# EAGLE library part AD8226ARMZ-R7 (library AD2886-7)
Wide Supply Range, Rail-to-Rail Output Instrumentation Amplifier
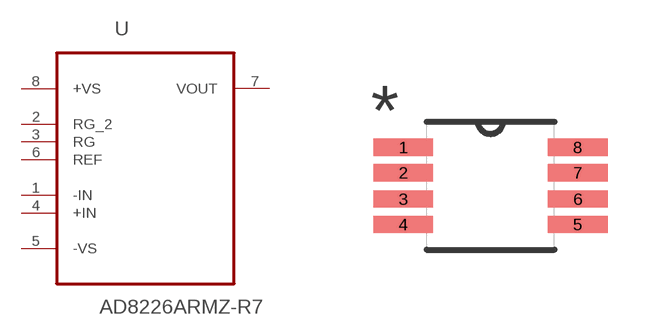
[diagram p0: symbol with the pads of SOP65P490X110-8N; footprint SOP65P490X110-8N]

Designator prefix U

## AD8226ARMZ-R7 (MPN: AD8226ARMZ-R7; OC_FARNELL: 2192176; OC_NEWARK: 24W8483; PACKAGE: MSOP-8; SUPPLIER: Analog Devices)  [SOP65P490X110-8N]
1  -IN  in
2  RG_2  pas
3  RG  pas
4  +IN  in
5  -VS  pwr
6  REF  in
7  VOUT  out
8  +VS  pwr

## Footprint SOP65P490X110-8N (pad centres in mm)
smd 1.499 x 0.432: 1 -2.184,0.965; 2 -2.184,0.33; 3 -2.184,-0.33; 4 -2.184,-0.965; 5 2.184,-0.965; 6 2.184,-0.33; 7 2.184,0.33; 8 2.184,0.965